# Altium schematic symbol library E2S_E2S_015_V1.SchLib: 1 symbol
Pins are listed as number, name and electrical type; pins without a type are passive.

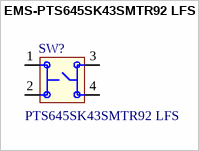
[diagram p0: symbol EMS-PTS645SK43SMTR92 LFS]

## EMS-PTS645SK43SMTR92 LFS
designator SW?, comment value PTS645SK43SMTR92 LFS  (hidden comment: SWITCH TACTILE SPST-NO 0.05A 12V)
Manufacturer: C&K; Internal Part Number: EMS-PTS645SK43SMTR92 LFS; Vendor Part Number: CKN9084CT-ND; 3rd Auxiliary Field: RoHS Compliant; Component Height (mm): 4.3MM; Temp Co: -20°C ~ 60°C; Vendor Name: Digi-Key; 2nd Auxiliary Field: 0.05A @ 12VDC; Manufacturer Part Number: PTS645SK43SMTR92 LFS; Part Type: SWITCH TACTILE SPST-NO 0.05A 12V; 4th Auxiliary Field: *; 1st Auxiliary Field: SPST-NO
footprint SW_PTS645SK43SMTR92 LFS (Footprint not found)
pins: 1, 2, 3, 4